# Altium footprint library BeliefSat-0 2.0(Lib).PcbLib: 18 footprints (part 1 of 2)
Each footprint in its own frame and in the unit in brackets; x right, y up, seen from the top. Pads: shape width x height; smd on the part's side, far side on the other; paste and mask are expansions set on the pad; w line width, h text height; cw(c..) or ccw(c..) is an arc to the next point about the centre after c.
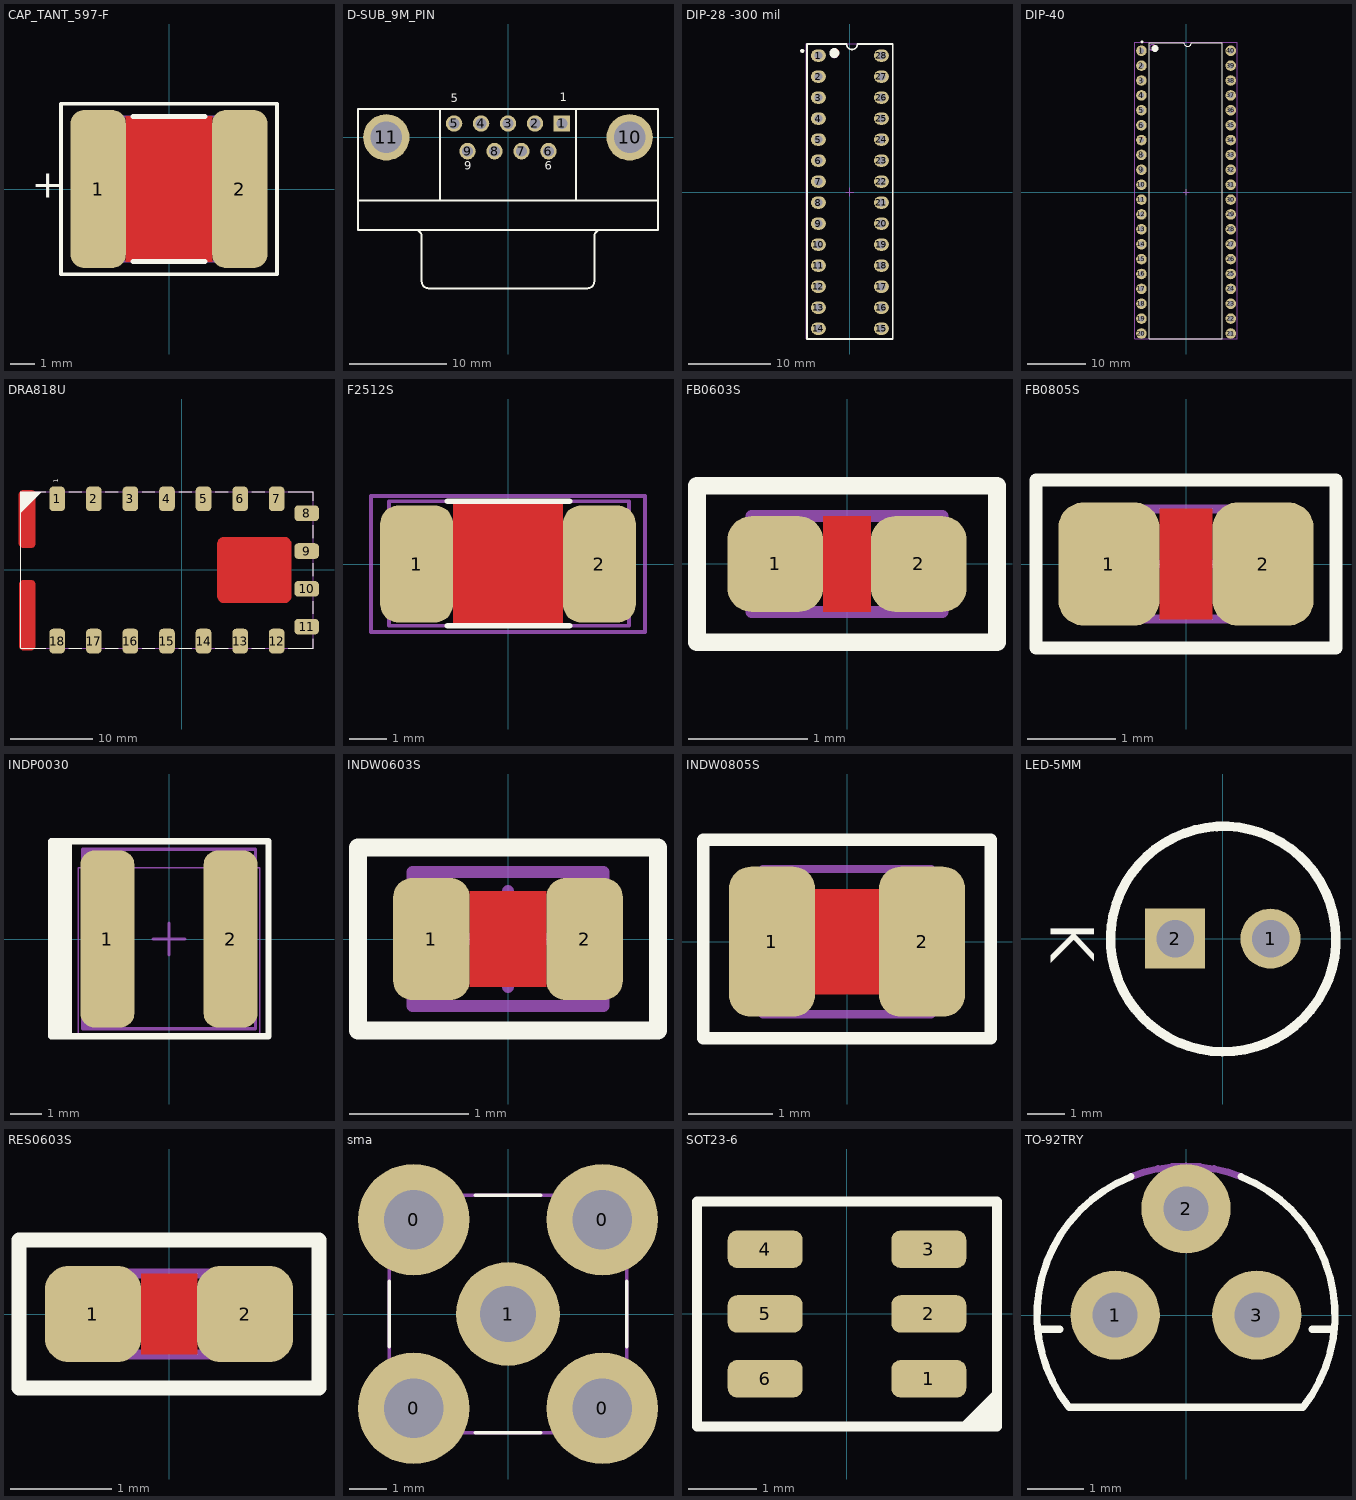
[diagram p0: the footprints below, top view; thin cyan lines are the x and y axes]

## CAP_TANT_597-F [mm]
height 2.8
pads (2):
  rrect50% 2.3x6.6 smd: 1(-2.95,0) 2(2.95,0)
Top Layer:
  pour cut-out: 1.8,3.023 -1.8,3.023 -1.8,-3.023 1.8,-3.023
Top Overlay:
  lines w0.15: -4.5,-3.556 4.5,-3.556 4.5,3.556 -4.5,3.556 -4.5,-3.556
  lines w0.2: -1.497,-3.023 1.497,-3.023 ; -1.497,3.023 1.497,3.023
  text "+" at -5.715,-0.762 h2
Top Courtyard:
  lines w0.1: -0.5,0 0.5,0 ; 0,-0.5 0,0.5
Top 3D Body:
  rectangle: -3.75,-3.023 -2.741,3.023
  lines w0.1: -3.75,-3.023 -3.75,3.023 3.75,3.023 3.75,-3.023 -3.75,-3.023
3D body "597D_F-case.stp": height 4.7, standoff 0, extent -4.559,-3.023 3.035,3.023

## D-SUB_9M_PIN [mm] "Connector; D Subminiature; 9 Position; Right Angle; Pitch 1.385 mm"
height 12.75
pads (11):
  rect 1.69x1.69 hole 1.09: 1(5.54,1.42)
  round 1.69 hole 1.09: 2(2.77,1.42) 3(0,1.42) 4(-2.77,1.42) 5(-5.54,1.42) 6(4.155,-1.42) 7(1.385,-1.42) 8(-1.385,-1.42) 9(-4.155,-1.42)
  round 4.76 hole 3.26: 10(12.495,0) 11(-12.495,0)
Top Overlay:
  lines w0.2: -15.4,-6.5 15.4,-6.5 ; -9.56,-9.505 cw(c-9.56,-10.2) -8.865,-10.2 -8.865,-14.8 ; -8.86,-14.805 ccw(c-8.165,-14.805) -8.165,-15.5 8.165,-15.5 ccw(c8.165,-14.805) 8.86,-14.805 ; -7,-6.5 -7,2.9 ; 7,-6.5 7,2.9 ; 8.865,-14.8 8.865,-10.2 cw(c9.56,-10.2) 9.56,-9.505 ; -15.4,-9.5 -15.4,2.9 15.4,2.9 15.4,-9.5 -15.4,-9.5
  text "1" at 5.294,3.388 h1.5
  text "5" at -5.862,3.301 h1.5
  text "9" at -4.499,-3.646 h1.5
  text "6" at 3.767,-3.613 h1.5
3D body "618009231121 (rev1).stp": height 12.75, standoff -3.75, extent -15.4,-15.5 15.4,2.9

## DIP-28 -300 mil [mm]
height 0.71
pads (28):
  oval 1.8x1.5 hole 1: 1(-3.81,16.51) 2(-3.81,13.97) 3(-3.81,11.43) 4(-3.81,8.89) 5(-3.81,6.35) 6(-3.81,3.81) 7(-3.81,1.27) 8(-3.81,-1.27) 9(-3.81,-3.81) 10(-3.81,-6.35) 11(-3.81,-8.89) 12(-3.81,-11.43) 13(-3.81,-13.97) 14(-3.81,-16.51) 15(3.81,-16.51) 16(3.81,-13.97) 17(3.81,-11.43) 18(3.81,-8.89) 19(3.81,-6.35) 20(3.81,-3.81) 21(3.81,-1.27) 22(3.81,1.27) 23(3.81,3.81) 24(3.81,6.35) 25(3.81,8.89) 26(3.81,11.43) 27(3.81,13.97) 28(3.81,16.51)
Top Overlay:
  circle w0.6: c-1.878,16.809 r0.3
  circle w0.25: c-5.759,17.078 r0.125
  lines w0.2: -0.382,17.878 ccw(c0.253,17.878) 0.888,17.878 ; -0.382,17.9 -5.194,17.9 -5.194,-17.767 5.178,-17.767 5.178,17.9 0.888,17.9
Top 3D Body:
  circle w0.1: c-1.873,16.766 r0.5
  lines w0.1: -5.287,-17.748 5.163,-17.748 5.163,17.94 -5.287,17.94 -5.287,-17.748
Mechanical 15:
  lines w0.1: -0.512,0.002 0.488,0.002 ; -0.012,-0.498 -0.012,0.502
3D body "DIP28-300.step": height 9.58, standoff 2.01, extent -3.935,-18 3.935,18
3D body "DIP28ass.STEP": height 4.39, standoff -2.89, extent -5.08,-17.78 5.08,17.78

## DIP-40 [mm]
pads (40):
  round 1.8 hole 0.9: 1(-7.62,24.13) 2(-7.62,21.59) 3(-7.62,19.05) 4(-7.62,16.51) 5(-7.62,13.97) 6(-7.62,11.43) 7(-7.62,8.89) 8(-7.62,6.35) 9(-7.62,3.81) 10(-7.62,1.27) 11(-7.62,-1.27) 12(-7.62,-3.81) 13(-7.62,-6.35) 14(-7.62,-8.89) 15(-7.62,-11.43) 16(-7.62,-13.97) 17(-7.62,-16.51) 18(-7.62,-19.05) 19(-7.62,-21.59) 20(-7.62,-24.13) 21(7.62,-24.13) 22(7.62,-21.59) 23(7.62,-19.05) 24(7.62,-16.51) 25(7.62,-13.97) 26(7.62,-11.43) 27(7.62,-8.89) 28(7.62,-6.35) 29(7.62,-3.81) 30(7.62,-1.27) 31(7.62,1.27) 32(7.62,3.81) 33(7.62,6.35) 34(7.62,8.89) 35(7.62,11.43) 36(7.62,13.97) 37(7.62,16.51) 38(7.62,19.05) 39(7.62,21.59) 40(7.62,24.13)
Top Overlay:
  circle w0.25: c-7.534,25.643 r0.125
  circle w0.6: c-5.313,24.52 r0.3
  lines w0.2: -0.382,25.498 ccw(c0.253,25.498) 0.888,25.498 ; -0.382,25.52 -6.313,25.52 -6.313,-25.066 6.178,-25.066 6.178,25.52 0.888,25.52
Top 3D Body:
  circle w0.1: c-5.74,24.684 r0.5
  lines w0.1: -8.739,-25.065 -8.739,25.56 8.697,25.56 8.697,-25.065 -8.739,-25.065
Mechanical 15:
  lines w0.1: -0.506,-0.001 0.494,-0.001 ; -0.006,-0.501 -0.006,0.499
3D body: height 5.7, standoff -2.58, extent -7.745,-26.225 7.745,26.225

## DRA818U [mm]
pads (18):
  rrect50% 1.9x3 smd: 1(-15.175,8.65) 2(-10.725,8.65) 3(-6.275,8.65) 4(-1.825,8.65) 5(2.625,8.65) 6(7.075,8.65) 7(11.525,8.65) 12(11.525,-8.65) 13(7.075,-8.65) 14(2.625,-8.65) 15(-1.825,-8.65) 16(-6.275,-8.65) 17(-10.725,-8.65) 18(-15.175,-8.65)
  rrect50% 3x1.9 smd: 8(15.175,6.9) 9(15.175,2.3) 10(15.175,-2.3) 11(15.175,-6.9)
Top Layer:
  pour cut-out: -19.367,9.698 -18.32,9.698 -18.221,9.698 -18.039,9.623 -17.9,9.484 -17.825,9.302 -17.825,9.204 -17.825,3.206 -17.825,3.105 -17.902,2.919 -18.044,2.777 -18.23,2.7 -18.331,2.7 -19.326,2.7 -19.425,2.7 -19.609,2.776 -19.749,2.916 -19.825,3.1 -19.825,3.199 -19.825,9.2 -19.825,9.3 -19.749,9.483 -19.608,9.624 -19.425,9.7 -19.325,9.7
  pour cut-out: -18.868,-1.25 -18.334,-1.25 -18.233,-1.25 -18.046,-1.327 -17.902,-1.471 -17.825,-1.658 -17.825,-1.759 -17.825,-9.248 -17.825,-9.348 -17.901,-9.533 -18.042,-9.674 -18.227,-9.75 -18.327,-9.75 -19.328,-9.75 -19.427,-9.75 -19.609,-9.674 -19.749,-9.534 -19.825,-9.352 -19.825,-9.253 -19.825,-1.748 -19.825,-1.649 -19.749,-1.466 -19.609,-1.326 -19.426,-1.25 -19.327,-1.25
  pour cut-out: 12.487,4 12.567,4 12.724,3.969 12.872,3.907 13.005,3.818 13.118,3.705 13.207,3.572 13.269,3.424 13.3,3.267 13.3,3.187 13.3,-3.197 13.3,-3.276 13.269,-3.431 13.209,-3.578 13.121,-3.709 13.009,-3.821 12.878,-3.909 12.731,-3.969 12.576,-4 12.497,-4 5.098,-4 5.02,-4 4.865,-3.969 4.72,-3.909 4.589,-3.822 4.478,-3.711 4.391,-3.58 4.331,-3.435 4.3,-3.28 4.3,-3.202 4.3,3.189 4.3,3.269 4.331,3.426 4.392,3.573 4.481,3.706 4.594,3.819 4.727,3.908 4.874,3.969 5.031,4 5.111,4
Top Overlay:
  region: -19.625,9.5 -19.625,7 -19.625,6.992 -19.619,6.977 -19.608,6.966 -19.593,6.96 -19.585,6.96 -17.045,9.5
  lines w0.15: -16.593,-9.5 -19.625,-9.5 -19.625,9.5 -16.593,9.5 ; -13.757,-9.5 -12.186,-9.5 ; -13.757,9.5 -12.186,9.5 ; -9.307,-9.5 -7.736,-9.5 ; -9.307,9.5 -7.736,9.5 ; -4.857,-9.5 -3.286,-9.5 ; -4.857,9.5 -3.286,9.5 ; -0.407,-9.5 1.164,-9.5 ; -0.407,9.5 1.164,9.5 ; 4.043,-9.5 5.614,-9.5 ; 4.043,9.5 5.614,9.5 ; 8.493,-9.5 10.064,-9.5 ; 8.493,9.5 10.064,9.5 ; 12.913,9.5 15.975,9.5 15.975,8.45 ; 12.943,-9.5 15.975,-9.5 15.975,-8.34 ; 15.975,-5.35 15.975,-3.779 ; 15.975,-0.75 15.975,0.821 ; 15.975,3.85 15.975,5.421
  text "1" at -14.825,10.6 h1
Top 3D Body:
  lines w0.15: -19.625,-9.5 15.975,-9.5 15.975,9.5 -19.625,9.5

## F2512S [mm]
height 0.71
pads (2):
  rrect50% 1.96x3.15 smd paste+0 mask+0.102: 1(-2.455,0) 2(2.455,0)
Top Layer:
  pour cut-out: 1.475,1.6 -1.475,1.6 -1.475,-1.6 1.475,-1.6
Top Overlay:
  lines w0.152: -1.626,-1.662 1.651,-1.662 ; -1.626,1.688 1.651,1.688
Top Courtyard:
  lines w0.1: -0.5,0 0.5,0 ; 0,-0.5 0,0.5 ; -3.683,-1.829 3.683,-1.829 3.683,1.829 -3.683,1.829 -3.683,-1.829
Top 3D Body:
  lines w0.1: -3.199,-1.662 -3.199,1.688 3.251,1.688 3.251,-1.662 -3.199,-1.662
3D body "2512 RES.step": height 0.6, standoff 0, extent -3.2,-1.6 3.2,1.6

## FB0603S [mm] "Chip Capacitor, 2-Leads, Body 1.60x0.80mm, IPC Medium Density"
height 0.8
pads (2):
  rrect50% 0.8x0.8 smd: 1(-0.6,0) 2(0.6,0)
Top Layer:
  pour cut-out: 0.2,0.398 -0.2,0.398 -0.2,-0.398 0.2,-0.398
Top Overlay:
  lines w0.15: -1.254,-0.654 1.254,-0.654 1.254,0.654 -1.254,0.654 -1.254,-0.654
Mechanical 3:
  lines w0.1: -0.8,-0.4 -0.8,0.4 0.8,0.4 0.8,-0.4 -0.8,-0.4
Mechanical 15:
  lines w0.05: -1.254,-0.65 1.254,-0.65 1.254,0.65 -1.254,0.65 -1.254,-0.65
  lines w0.1: -0.4,0 0.4,0 ; 0,-0.4 0,0.4
3D body "User Library-Chip Inductor0603.step": height 0.95, standoff 0, extent -0.8,-0.4 0.8,0.4

## FB0805S [mm] "Chip Capacitor, 2-Leads, Body 2.00x1.25mm, IPC Medium Density"
height 1.25
pads (2):
  rrect50% 1.15x1.4 smd: 1(-0.875,0) 2(0.875,0)
Top Layer:
  pour cut-out: 0.3,0.625 -0.3,0.625 -0.3,-0.625 0.3,-0.625
Top Overlay:
  lines w0.15: -1.704,-0.954 1.704,-0.954 1.704,0.954 -1.704,0.954 -1.704,-0.954
Mechanical 3:
  lines w0.1: -1,-0.625 1,-0.625 1,0.625 -1,0.625 -1,-0.625
Mechanical 15:
  lines w0.05: -1.704,-0.954 -1.704,0.954 1.704,0.954 1.704,-0.954 -1.704,-0.954
  lines w0.1: -0.5,0 0.5,0 ; 0,-0.5 0,0.5
3D body "User Library-ind_0805.step": height 0.95, standoff 0, extent -1,-0.6 1,0.6

## INDP0030 [mm] "Precision Wire Wound Inductor, 2-Leads, Body 4.00x4.00mm, IPC Medium Density"
height 2.1
pads (2):
  rrect50% 1.7x5.6 smd: 1(-1.95,0) 2(1.95,0)
Top Overlay:
  rectangle: -3.725,-3.075 -3.075,3.1
  lines w0.2: -3.725,-3.075 -3.725,3.1 3.15,3.1 3.15,-3.075 -3.725,-3.075
Top 3D Body:
  rectangle: -2.74,-2.84 -2.202,2.84
  lines w0.1: -2.74,-2.84 -2.74,2.84 2.74,2.84 2.74,-2.84 -2.74,-2.84
Mechanical 15:
  lines w0.05: -2.875,-3.1 2.875,-3.1 2.875,2.25 -2.875,2.25 -2.875,-3.1
  lines w0.1: -0.5,0 0.5,0 ; 0,-0.5 0,0.5
3D body "Coilcraft-XAL5030.step": height 3.15, standoff 0.05, extent -2.74,-2.84 2.74,2.84

## INDW0603S [mm] "Chip Capacitor, 2-Leads, Body 1.60x0.80mm, IPC Medium Density"
height 0.8
pads (2):
  rrect50% 0.64x1.02 smd: 1(-0.64,0) 2(0.64,0)
Top Layer:
  pour cut-out: 0.321,0.398 -0.319,0.398 -0.319,-0.398 0.321,-0.398
Top Overlay:
  lines w0.15: -1.254,-0.764 1.254,-0.764 1.254,0.764 -1.254,0.764 -1.254,-0.764
Mechanical 3:
  lines w0.1: -0.8,-0.561 -0.8,0.561 0.8,0.561 0.8,-0.561 -0.8,-0.561
Mechanical 15:
  lines w0.05: -1.254,-0.762 1.254,-0.762 1.254,0.762 -1.254,0.762 -1.254,-0.762
  lines w0.1: -0.4,0 0.4,0 ; 0,-0.4 0,0.4
3D body "Coilcraft-0603CS.step": height 1.06, standoff 0.03, extent -0.902,-0.561 0.902,0.561

## INDW0805S [mm] "Chip Capacitor, 2-Leads, Body 2.00x1.25mm, IPC Medium Density"
height 1.25
pads (2):
  rrect50% 1.02x1.78 smd: 1(-0.89,0) 2(0.89,0)
Top Layer:
  pour cut-out: 0.376,0.625 -0.378,0.625 -0.378,-0.625 0.376,-0.625
Top Overlay:
  lines w0.15: -1.704,-1.144 1.704,-1.144 1.704,1.208 -1.704,1.208 -1.704,-1.143
Mechanical 3:
  lines w0.1: -1,-0.863 1,-0.863 1,0.863 -1,0.863 -1,-0.863
Mechanical 15:
  lines w0.05: -1.704,-1.143 -1.704,1.208 1.704,1.208 1.704,-1.143 -1.704,-1.143
  lines w0.1: -0.5,0 0.5,0 ; 0,-0.5 0,0.5
3D body "Coilcraft-0805HQ.step": height 1.51, standoff -0.01, extent -1.145,-0.863 1.145,0.863

## LED-5MM [mm]
pads (2):
  round 1.6 hole 1: 1(1.27,0)
  rect 1.6x1.6 hole 1: 2(-1.27,0)
Top Overlay:
  lines w0.254: 2.513,-1.667 cw(c0.013,-0.009) 2.561,-1.592
  text "K" at -4.974,0.419 h2
3D body: height 12.31, standoff -2.49, extent -2.98,-2.972 2.44,3.047

## RES0603S [mm] "Chip Capacitor, 2-Leads, Body 1.60x0.80mm, IPC Medium Density"
height 0.8
pads (2):
  rrect50% 0.95x0.95 smd: 1(-0.75,0) 2(0.75,0)
Top Layer:
  pour cut-out: 0.28,0.398 -0.275,0.398 -0.275,-0.398 0.28,-0.398
Top Overlay:
  lines w0.15: -1.479,-0.729 -1.479,0.729 1.479,0.729 1.479,-0.729 -1.479,-0.729
Mechanical 3:
  lines w0.1: -0.8,-0.4 0.8,-0.4 0.8,0.4 -0.8,0.4 -0.8,-0.4
Mechanical 15:
  lines w0.05: -1.479,-0.729 1.479,-0.729 1.479,0.729 -1.479,0.729 -1.479,-0.729
  lines w0.1: -0.4,0 0.4,0 ; 0,-0.4 0,0.4
3D body "r0603_Res1-1.step": height 0.8, standoff 0, extent -1.23,-0.4 1.23,0.4

## sma [mm]
pads (5):
  round 3 hole 1.6: 0(-2.54,-2.54) 0(-2.54,2.54) 0(2.54,-2.54) 0(2.54,2.54)
  round 2.8 hole 1.5: 1(0,0)
Top Overlay:
  lines w0.1: -3.2,-0.875 -3.2,0.875 ; -0.875,-3.2 0.875,-3.2 ; -0.875,3.2 0.875,3.2 ; 3.2,-0.875 3.2,0.875
Top 3D Body:
  lines w0.1: -3.2,-3.2 3.2,-3.2 3.2,3.2 -3.2,3.2 -3.2,-3.2
3D body: height 10.03, standoff -3.44, extent -3.5,-3.5 3.5,3.5

## SOT23-6 [mm] "SOT-23/SC-74A; 5 Leads; Body 3 x 3 mm, inc. leads (LxW max)"
height 1.45
pads (6):
  rrect50% 1.1x0.55 smd: 1(1.2,-0.95) 2(1.2,0) 3(1.2,0.95) 4(-1.2,0.95) 5(-1.2,0) 6(-1.2,-0.95)
Top Overlay:
  region: 2.2,-1.65 2.2,-1.075 1.625,-1.65
  lines w0.15: -2.2,-1.65 -2.2,1.65 2.2,1.65 2.2,-1.65 -2.2,-1.65
3D body "SOT23-6.step": height 1.3, standoff 0, extent -1.5,-1.5 1.5,1.5

## TO-92TRY [mm]
pads (3):
  round 1.6 hole 0.8: 1(-1.27,0) 2(0,1.905) 3(1.27,0)
Top Overlay:
  lines w0.127: -2.655,-0.254 -2.254,-0.254 ; -0.985,2.479 ccw(c-0.001,0) -2.095,-1.651 2.095,-1.651 ccw(c0.001,0) 0.985,2.478 ; 2.254,-0.254 2.655,-0.254
Top 3D Body:
  lines w0.127: -0.985,2.479 cw(c0,0) 0.985,2.478
3D body "User Library-TO-92_CB254.step": height 10, standoff -2.5, extent -2.491,-1.651 2.491,2.459